# EAGLE library part 61301821121 (library Wuerth_Elektronik_eiCan_Pin_&_Socked_Headers_v1.3)
WR-PHD 2.54mm Dual Pin Header, 18 Pins
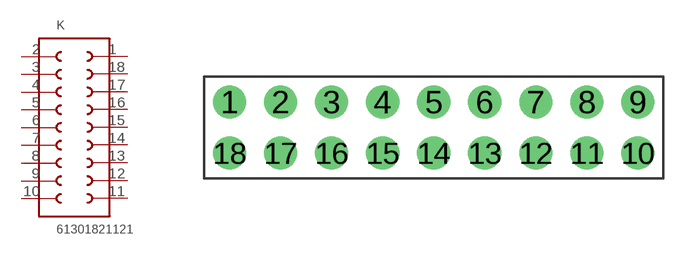
[diagram p24: symbol with the pads of 61301821121; footprint 61301821121]

Designator prefix K

## 61301821121  [61301821121]
1  18  pas
2  1  pas
3  2  pas
4  3  pas
5  4  pas
6  5  pas
7  6  pas
8  7  pas
9  8  pas
10  9  pas
11  10  pas
12  11  pas
13  12  pas
14  13  pas
15  14  pas
16  15  pas
17  16  pas
18  17  pas

## Footprint 61301821121 (pad centres in mm)
WR-PHD 2.54mm Dual Pin Header, 18 Pins
drill 1.1 round: 1 -10.16,1.27; 2 -7.62,1.27; 3 -5.08,1.27; 4 -2.54,1.27; 5 0,1.27; 6 2.54,1.27; 7 5.08,1.27; 8 7.62,1.27; 9 10.16,1.27; 10 10.16,-1.27; 11 7.62,-1.27; 12 5.08,-1.27; 13 2.54,-1.27; 14 0,-1.27; 15 -2.54,-1.27; 16 -5.08,-1.27; 17 -7.62,-1.27; 18 -10.16,-1.27